# Altium footprint library Footprint.PcbLib: 97 footprints (part 5 of 7)
Each footprint in its own frame and in the unit in brackets; x right, y up, seen from the top. Pads: shape width x height; smd on the part's side, far side on the other; paste and mask are expansions set on the pad; w line width, h text height; cw(c..) or ccw(c..) is an arc to the next point about the centre after c.
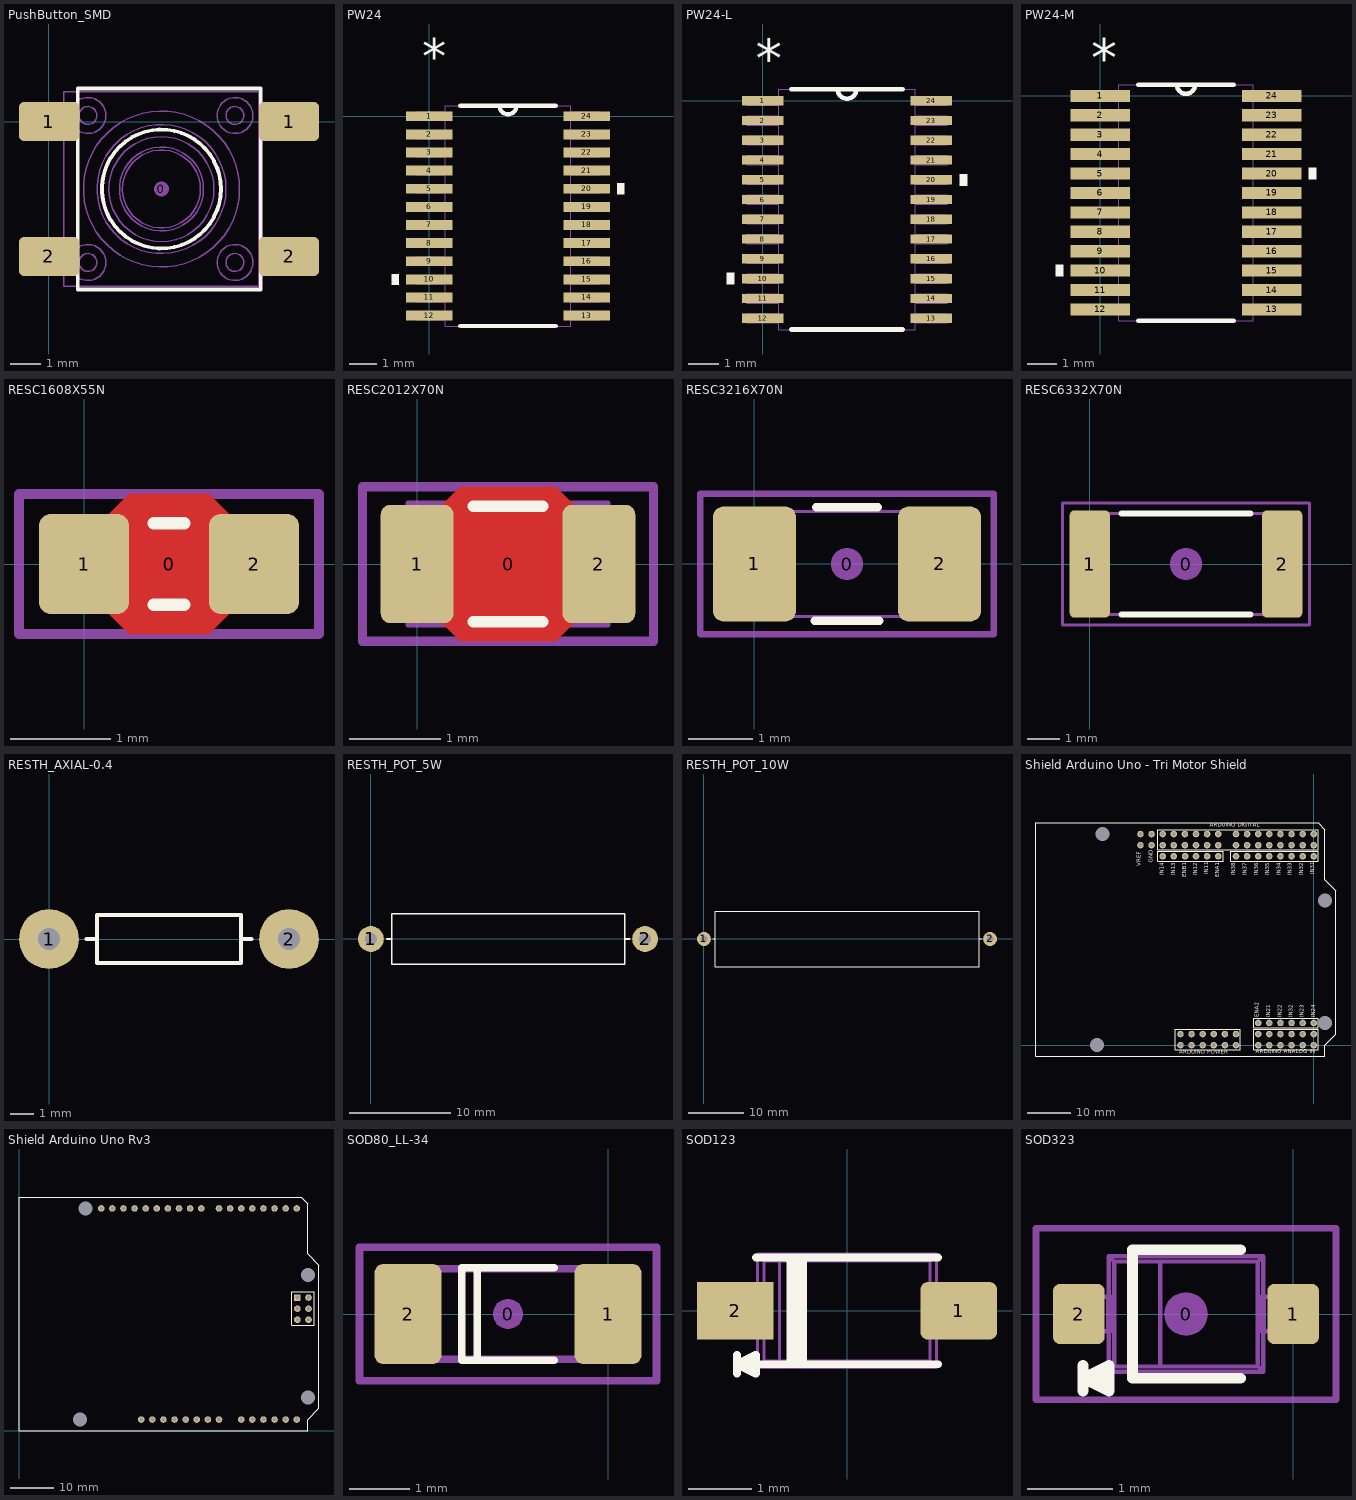
[diagram p4: the footprints below, top view; thin cyan lines are the x and y axes]

## PushButton_SMD [mm] "6.5x6.5mm SMD tact switch 7.0mm stem"
height 7
pads (5):
  round 0.508 on Mech15: 0(3.75,-2.25)
  rrect25% 2x1.3 smd: 1(0,0) 1(8.001,0) 2(0,-4.5) 2(8.001,-4.5)
Top Overlay:
  circle w0.127: c3.75,-2.25 r1.984
  lines w0.127: 0.956,-5.6 0.956,1.1 7.061,1.1 7.061,-5.6 0.956,-5.6
Mechanical 13:
  circle w0.05: c1.3,-4.7 r0.6
  circle w0.05: c6.2,-4.7 r0.6
  circle w0.05: c6.2,0.2 r0.6
  circle w0.05: c1.3,0.2 r0.6
  circle w0.05: c1.3,-4.698 r0.3
  circle w0.05: c6.2,-4.698 r0.3
  circle w0.05: c1.3,0.202 r0.3
  circle w0.05: c6.2,0.202 r0.3
  circle w0.05: c3.75,-2.25 r2.6
  circle w0.05: c3.75,-2.25 r2.15
  circle w0.05: c3.75,-2.252 r1.75
  circle w0.05: c3.75,-2.25 r1.4
  circle w0.05: c3.75,-2.25 r1.3
  lines w0.05: 0.159,-4.85 0.159,-4.15 ; 0.159,-0.35 0.159,0.35 ; 0.179,-4.85 0.179,-4.15 ; 0.179,-0.35 0.179,0.35 ; 0.282,-4.85 0.282,-4.15 ; 0.282,-0.35 0.282,0.35 ; 0.497,-4.85 0.497,-4.15 ; 0.497,-0.35 0.497,0.35 ; 0.5,-4.85 -0.25,-4.85 -0.25,-4.15 0.5,-4.15 ; 0.5,-0.35 -0.25,-0.35 -0.25,0.35 0.5,0.35 ; 7,-4.85 7.75,-4.85 7.75,-4.15 7,-4.15 ; 7,-0.35 7.75,-0.35 7.75,0.35 7,0.35 ; 7.003,-4.85 7.003,-4.15 ; 7.003,-0.35 7.003,0.35 ; 7.218,-4.85 7.218,-4.15 ; 7.218,-0.35 7.218,0.35 ; 7.321,-4.85 7.321,-4.15 ; 7.321,-0.35 7.321,0.35 ; 7.341,-4.85 7.341,-4.15 ; 7.341,-0.35 7.341,0.35 ; 0.5,-5.5 0.5,1 7,1 7,-5.5 0.5,-5.5
3D body: height 4.3, standoff 0, extent -0.436,-5.334 8.564,0.666

## PW24 [mil]
pads (24):
  rect 66x14 smd: 1(0,0) 2(0,-25.59) 3(0,-51.18) 4(0,-76.77) 5(0,-102.36) 6(0,-127.95) 7(0,-153.54) 8(0,-179.13) 9(0,-204.72) 10(0,-230.31) 11(0,-255.91) 12(0,-281.5) 13(222,-281.5) 14(222,-255.91) 15(222,-230.31) 16(222,-204.72) 17(222,-179.13) 18(222,-153.54) 19(222,-127.95) 20(222,-102.36) 21(222,-76.77) 22(222,-51.18) 23(222,-25.59) 24(222,0)
Top Overlay:
  region: -43,-222.81 -53,-222.81 -53,-237.81 -43,-237.81
  region: 265,-94.86 275,-94.86 275,-109.86 265,-109.86
  lines w6: 43.56,-296.25 178.44,-296.25 ; 43.56,14.75 178.44,14.75 ; 99,14.75 ccw(c111,14.75) 123,14.75
  text "*" at -10,59 h50
Mechanical 1:
  lines w0: 99,14.75 ccw(c111,14.75) 123,14.75 ; -19,-287.5 -19,-275.5 22.5,-275.5 22.5,-287.5 -19,-287.5 ; -19,-261.91 -19,-249.91 22.5,-249.91 22.5,-261.91 -19,-261.91 ; -19,-236.31 -19,-224.31 22.5,-224.31 22.5,-236.31 -19,-236.31 ; -19,-210.72 -19,-198.72 22.5,-198.72 22.5,-210.72 -19,-210.72 ; -19,-185.13 -19,-173.13 22.5,-173.13 22.5,-185.13 -19,-185.13 ; -19,-159.54 -19,-147.54 22.5,-147.54 22.5,-159.54 -19,-159.54 ; -19,-133.95 -19,-121.95 22.5,-121.95 22.5,-133.95 -19,-133.95 ; -19,-108.36 -19,-96.36 22.5,-96.36 22.5,-108.36 -19,-108.36 ; -19,-82.77 -19,-70.77 22.5,-70.77 22.5,-82.77 -19,-82.77 ; -19,-57.18 -19,-45.18 22.5,-45.18 22.5,-57.18 -19,-57.18 ; -19,-31.59 -19,-19.59 22.5,-19.59 22.5,-31.59 -19,-31.59 ; -19,-6 -19,6 22.5,6 22.5,-6 -19,-6 ; 22.5,-296.25 199.5,-296.25 199.5,14.75 22.5,14.75 22.5,-296.25 ; 199.5,-287.5 199.5,-275.5 241,-275.5 241,-287.5 199.5,-287.5 ; 199.5,-261.91 199.5,-249.91 241,-249.91 241,-261.91 199.5,-261.91 ; 199.5,-236.31 199.5,-224.31 241,-224.31 241,-236.31 199.5,-236.31 ; 199.5,-210.72 199.5,-198.72 241,-198.72 241,-210.72 199.5,-210.72 ; 199.5,-185.13 199.5,-173.13 241,-173.13 241,-185.13 199.5,-185.13 ; 199.5,-159.54 199.5,-147.54 241,-147.54 241,-159.54 199.5,-159.54 ; 199.5,-133.95 199.5,-121.95 241,-121.95 241,-133.95 199.5,-133.95 ; 199.5,-108.36 199.5,-96.36 241,-96.36 241,-108.36 199.5,-108.36 ; 199.5,-82.77 199.5,-70.77 241,-70.77 241,-82.77 199.5,-82.77 ; 199.5,-57.18 199.5,-45.18 241,-45.18 241,-57.18 199.5,-57.18 ; 199.5,-31.59 199.5,-19.59 241,-19.59 241,-31.59 199.5,-31.59 ; 199.5,-6 199.5,6 241,6 241,-6 199.5,-6
  text "*" at -10,59 h50
3D body: height 37.86, standoff -1.51, extent -15.38,-294.29 237.39,12.8

## PW24-L [mil]
pads (24):
  rect 54x12 smd: 1(0,0) 2(0,-25.59) 3(0,-51.18) 4(0,-76.77) 5(0,-102.36) 6(0,-127.95) 7(0,-153.54) 8(0,-179.13) 9(0,-204.72) 10(0,-230.31) 11(0,-255.91) 12(0,-281.5) 13(218,-281.5) 14(218,-255.91) 15(218,-230.31) 16(218,-204.72) 17(218,-179.13) 18(218,-153.54) 19(218,-127.95) 20(218,-102.36) 21(218,-76.77) 22(218,-51.18) 23(218,-25.59) 24(218,0)
Top Overlay:
  region: 255,-94.86 265,-94.86 265,-109.86 255,-109.86
  region: -37,-222.81 -47,-222.81 -47,-237.81 -37,-237.81
  lines w6: 36.75,-296.25 181.25,-296.25 ; 36.75,14.75 181.25,14.75 ; 97,14.75 ccw(c109,14.75) 121,14.75
  text "*" at -9,30 h50
Mechanical 1:
  lines w0: 97,14.75 ccw(c109,14.75) 121,14.75 ; -21,-287.5 20.5,-287.5 20.5,-275.5 -21,-275.5 -21,-287.5 ; -21,-261.91 20.5,-261.91 20.5,-249.91 -21,-249.91 -21,-261.91 ; -21,-236.31 20.5,-236.31 20.5,-224.31 -21,-224.31 -21,-236.31 ; -21,-210.72 20.5,-210.72 20.5,-198.72 -21,-198.72 -21,-210.72 ; -21,-185.13 20.5,-185.13 20.5,-173.13 -21,-173.13 -21,-185.13 ; -21,-159.54 20.5,-159.54 20.5,-147.54 -21,-147.54 -21,-159.54 ; -21,-133.95 20.5,-133.95 20.5,-121.95 -21,-121.95 -21,-133.95 ; -21,-108.36 20.5,-108.36 20.5,-96.36 -21,-96.36 -21,-108.36 ; -21,-82.77 20.5,-82.77 20.5,-70.77 -21,-70.77 -21,-82.77 ; -21,-57.18 20.5,-57.18 20.5,-45.18 -21,-45.18 -21,-57.18 ; -21,-31.59 20.5,-31.59 20.5,-19.59 -21,-19.59 -21,-31.59 ; -21,-6 20.5,-6 20.5,6 -21,6 -21,-6 ; 20.5,-296.25 20.5,14.75 197.5,14.75 197.5,-296.25 20.5,-296.25 ; 197.5,-287.5 239,-287.5 239,-275.5 197.5,-275.5 197.5,-287.5 ; 197.5,-261.91 239,-261.91 239,-249.91 197.5,-249.91 197.5,-261.91 ; 197.5,-236.31 239,-236.31 239,-224.31 197.5,-224.31 197.5,-236.31 ; 197.5,-210.72 239,-210.72 239,-198.72 197.5,-198.72 197.5,-210.72 ; 197.5,-185.13 239,-185.13 239,-173.13 197.5,-173.13 197.5,-185.13 ; 197.5,-159.54 239,-159.54 239,-147.54 197.5,-147.54 197.5,-159.54 ; 197.5,-133.95 239,-133.95 239,-121.95 197.5,-121.95 197.5,-133.95 ; 197.5,-108.36 239,-108.36 239,-96.36 197.5,-96.36 197.5,-108.36 ; 197.5,-82.77 239,-82.77 239,-70.77 197.5,-70.77 197.5,-82.77 ; 197.5,-57.18 239,-57.18 239,-45.18 197.5,-45.18 197.5,-57.18 ; 197.5,-31.59 239,-31.59 239,-19.59 197.5,-19.59 197.5,-31.59 ; 197.5,-6 239,-6 239,6 197.5,6 197.5,-6
3D body: height 37.86, standoff -1.51, extent -16.38,-294.29 236.38,12.79

## PW24-M [mil]
pads (24):
  rect 78x16 smd: 1(0,0) 2(0,-25.59) 3(0,-51.18) 4(0,-76.77) 5(0,-102.36) 6(0,-127.95) 7(0,-153.54) 8(0,-179.13) 9(0,-204.72) 10(0,-230.31) 11(0,-255.91) 12(0,-281.5) 13(226,-281.5) 14(226,-255.91) 15(226,-230.31) 16(226,-204.72) 17(226,-179.13) 18(226,-153.54) 19(226,-127.95) 20(226,-102.36) 21(226,-76.77) 22(226,-51.18) 23(226,-25.59) 24(226,0)
Top Overlay:
  region: -49,-222.81 -59,-222.81 -59,-237.81 -49,-237.81
  region: 275,-94.86 285,-94.86 285,-109.86 275,-109.86
  lines w6: 50.23,-296.25 175.77,-296.25 ; 50.23,14.75 175.77,14.75 ; 101,14.75 ccw(c113,14.75) 125,14.75
  text "*" at -12,25 h50
Mechanical 1:
  lines w0: 101,14.75 ccw(c113,14.75) 125,14.75 ; -17,-287.5 -17,-275.5 24.5,-275.5 24.5,-287.5 -17,-287.5 ; -17,-261.91 -17,-249.91 24.5,-249.91 24.5,-261.91 -17,-261.91 ; -17,-236.31 -17,-224.31 24.5,-224.31 24.5,-236.31 -17,-236.31 ; -17,-210.72 -17,-198.72 24.5,-198.72 24.5,-210.72 -17,-210.72 ; -17,-185.13 -17,-173.13 24.5,-173.13 24.5,-185.13 -17,-185.13 ; -17,-159.54 -17,-147.54 24.5,-147.54 24.5,-159.54 -17,-159.54 ; -17,-133.95 -17,-121.95 24.5,-121.95 24.5,-133.95 -17,-133.95 ; -17,-108.36 -17,-96.36 24.5,-96.36 24.5,-108.36 -17,-108.36 ; -17,-82.77 -17,-70.77 24.5,-70.77 24.5,-82.77 -17,-82.77 ; -17,-57.18 -17,-45.18 24.5,-45.18 24.5,-57.18 -17,-57.18 ; -17,-31.59 -17,-19.59 24.5,-19.59 24.5,-31.59 -17,-31.59 ; -17,-6 -17,6 24.5,6 24.5,-6 -17,-6 ; 24.5,-296.25 201.5,-296.25 201.5,14.75 24.5,14.75 24.5,-296.25 ; 201.5,-287.5 201.5,-275.5 243,-275.5 243,-287.5 201.5,-287.5 ; 201.5,-261.91 201.5,-249.91 243,-249.91 243,-261.91 201.5,-261.91 ; 201.5,-236.31 201.5,-224.31 243,-224.31 243,-236.31 201.5,-236.31 ; 201.5,-210.72 201.5,-198.72 243,-198.72 243,-210.72 201.5,-210.72 ; 201.5,-185.13 201.5,-173.13 243,-173.13 243,-185.13 201.5,-185.13 ; 201.5,-159.54 201.5,-147.54 243,-147.54 243,-159.54 201.5,-159.54 ; 201.5,-133.95 201.5,-121.95 243,-121.95 243,-133.95 201.5,-133.95 ; 201.5,-108.36 201.5,-96.36 243,-96.36 243,-108.36 201.5,-108.36 ; 201.5,-82.77 201.5,-70.77 243,-70.77 243,-82.77 201.5,-82.77 ; 201.5,-57.18 201.5,-45.18 243,-45.18 243,-57.18 201.5,-57.18 ; 201.5,-31.59 201.5,-19.59 243,-19.59 243,-31.59 201.5,-31.59 ; 201.5,-6 201.5,6 243,6 243,-6 201.5,-6
3D body: height 37.86, standoff -1.51, extent -13.38,-293.29 239.39,13.79

## RESC1608X55N [mm] "Chip Resistor, Body 1.6x0.8mm, EIA 0603, IPC Medium Density"
height 0.55
pads (3):
  round 0.254 on Mech15: 0(0.85,0)
  rrect25% 0.9x1 smd: 1(0,0) 2(1.7,0)
Top Layer:
  pour cut-out: 0.25,0.5 0.45,0.7 1.25,0.7 1.45,0.5 1.45,-0.5 1.25,-0.7 0.45,-0.7 0.25,-0.5
Top Overlay:
  lines w0.127: 0.698,-0.406 1.002,-0.406 ; 0.698,0.406 1.002,0.406
Mechanical 13:
  lines w0.05: -0.025,-0.475 0.375,-0.475 0.375,0.475 -0.025,0.475 -0.025,-0.475 ; 0.375,-0.474 1.325,-0.474 0.375,-0.474 ; 0.375,0.474 1.325,0.474 0.375,0.474 ; 1.325,-0.475 1.325,0.475 1.725,0.475 1.725,-0.475 1.325,-0.475
Mechanical 15:
  lines w0.1: -0.65,-0.7 -0.65,0.7 2.35,0.7 2.35,-0.7 -0.65,-0.7
3D body: height 0.54, standoff -0.01, extent -0.025,-0.475 1.725,0.475

## RESC2012X70N [mm] "Chip Resistor, Body 2.0x1.2mm, EIA 0805, IPC Medium Density"
height 0.7
pads (3):
  round 0.254 on Mech15: 0(1,0)
  rrect25% 0.8x1.3 smd: 1(0,0) 2(2,0)
Top Layer:
  pour cut-out: 0.275,0.65 0.475,0.85 1.525,0.85 1.725,0.65 1.725,-0.65 1.525,-0.85 0.475,-0.85 0.275,-0.65
Top Overlay:
  lines w0.127: 0.619,-0.635 1.381,-0.635 ; 0.619,0.635 1.381,0.635
Mechanical 13:
  lines w0.05: 1.6,-0.674 0.4,-0.674 ; 0.4,-0.675 0.4,0.675 -0.1,0.675 -0.1,-0.675 0.4,-0.675 ; 0.4,-0.674 1.6,-0.674 ; 1.6,-0.675 1.6,0.675 ; 1.6,-0.675 2.1,-0.675 2.1,0.675 1.6,0.675 ; 1.6,0.674 0.4,0.674 1.6,0.674
Mechanical 15:
  lines w0.1: -0.6,-0.85 2.6,-0.85 2.6,0.85 -0.6,0.85 -0.6,-0.85
3D body: height 0.69, standoff -0.01, extent -0.1,-0.675 2.1,0.675

## RESC3216X70N [mm] "Chip Resistor, Body 3.2x1.6mm, EIA 1206, IPC Medium Density"
height 0.7
pads (3):
  round 0.508 on Mech15: 0(1.45,0)
  rrect25% 1.3x1.8 smd: 1(0,0) 2(2.9,0)
Top Overlay:
  lines w0.127: 0.942,-0.889 1.958,-0.889 ; 0.967,0.889 1.933,0.889
Mechanical 13:
  lines w0.05: 2.475,-0.824 0.425,-0.824 2.475,-0.824 ; -0.175,-0.825 0.425,-0.825 0.425,0.825 -0.175,0.825 -0.175,-0.825 ; 0.425,0.824 2.475,0.824 0.425,0.824 ; 2.475,-0.825 2.475,0.825 3.075,0.825 3.075,-0.825 2.475,-0.825
Mechanical 15:
  lines w0.1: -0.85,-1.1 -0.85,1.1 3.75,1.1 3.75,-1.1 -0.85,-1.1
3D body: height 0.69, standoff -0.01, extent -0.175,-0.825 3.075,0.825

## RESC6332X70N [mm] "Chip Resistor, Body 6.3x3.2mm, 2512, IPC Medium Density"
height 0.7
pads (3):
  round 1 on Mech15: 0(3,0)
  rrect25% 1.25x3.35 smd: 1(0,0) 2(6,0)
Top Overlay:
  lines w0.2: 1,-1.575 5,-1.575 ; 1,1.575 5,1.575
Mechanical 13:
  lines w0.1: -0.15,-1.575 -0.15,1.575 6.15,1.575 6.15,-1.575 -0.15,-1.575
Mechanical 15:
  lines w0.1: -0.85,-1.9 -0.85,1.9 6.85,1.9 6.85,-1.9 -0.85,-1.9
3D body: height 0.69, standoff -0.01, extent -0.3,-1.7 6.3,1.7

## RESTH_AXIAL-0.4 [mil]
height 80
pads (2):
  round 100 hole 36 unplated: 1(0,0) 2(400,0)
Top Overlay:
  lines w6: 62.2,0 80,0 ; 320,0 337.8,0 ; 80,-40 80,40 320,40 320,-40 80,-40
3D body: height 102.23, standoff -100, extent -11.81,-50.27 411.81,50.27

## RESTH_POT_5W [mm] "Power resistor 5W"
height 10
pads (2):
  round 2.54 hole 1.2 unplated: 1(0,0) 2(27,0)
Top Overlay:
  lines w0.152: 1.58,0 2.032,0 ; 25,0 25.5,0 ; 2.032,-2.5 25,-2.5 25,2.5 2.032,2.5 2.032,-2.5
3D body: height 30, standoff 20, extent 2.007,-2.489 25.019,2.489
3D body: height 25, standoff 0, extent -1.091,-1.098 1.1,1.098
3D body: height 25, standoff 0, extent 25.909,-1.098 28.1,1.098
3D body: height 26.09, standoff 23.9, extent 24.1,-1.098 28.1,1.098
3D body: height 26.09, standoff 23.9, extent -1.094,-1.092 2.906,1.104

## RESTH_POT_10W [mm] "Power resistor 10W"
height 10
pads (2):
  round 2.54 hole 1.2 unplated: 1(0,0) 2(52,0)
Top Overlay:
  lines w0.152: 1.58,0 2.032,0 ; 50,0 50.5,0 ; 2.032,-5 2.032,5 50,5 50,-5 2.032,-5
3D body: height 26.09, standoff 23.9, extent -1.094,-1.092 2.906,1.104
3D body: height 26.09, standoff 23.9, extent 49.105,-1.092 53.105,1.103
3D body: height 25, standoff 0, extent 50.909,-1.098 53.1,1.098
3D body: height 25, standoff 0, extent -1.091,-1.098 1.1,1.098
3D body: height 30, standoff 20, extent 2.007,-5.029 50.038,5.029

## Shield Arduino Uno - Tri Motor Shield [mm]
pads (80):
  round 1.5 hole 0.9: 0(0,45.72) 0(0,48.26) 1(-2.54,45.72) 1(-2.54,48.26) 2(-5.08,45.72) 2(-5.08,48.26) 3(-7.62,45.72) 3(-7.62,48.26) 4(-10.16,45.72) 4(-10.16,48.26) 5(-12.7,45.72) 5(-12.7,48.26) 6(-15.24,45.72) 6(-15.24,48.26) 7(-17.78,45.72) 7(-17.78,48.26) 8(-21.844,45.72) 8(-21.844,48.26) 9(-24.384,45.72) 9(-24.384,48.26) 10(-26.924,45.72) 10(-26.924,48.26) 11(-29.464,45.72) 11(-29.464,48.26) 12(-32.004,45.72) 12(-32.004,48.26) 13(-34.544,45.72) 13(-34.544,48.26) 14(-37.084,45.72) 14(-37.084,48.26) 15(-39.624,45.72) 15(-39.624,48.26) 16(0,0) 16(0,2.54) 17(-2.54,0) 17(-2.54,2.54) 18(-5.08,0) 18(-5.08,2.54) 19(-7.62,0) 19(-7.62,2.54) 20(-10.16,0) 20(-10.16,2.54) 21(-12.7,0) 21(-12.7,2.54) 22(-17.78,0) 22(-17.78,2.54) 23(-20.32,0) 23(-20.32,2.54) 24(-22.86,0) 24(-22.86,2.54) 25(-25.4,0) 25(-25.4,2.54) 26(-27.94,0) 26(-27.94,2.54) 27(-30.48,0) 27(-30.48,2.54) 28(0,5.08) 29(-2.54,5.08) 30(-5.08,5.08) 31(-7.62,5.08) 32(-10.16,5.08) 33(-12.7,5.08) 34(0,43.18) 35(-2.54,43.18) 36(-5.08,43.18) 37(-7.62,43.18) 38(-10.16,43.18) 39(-12.7,43.18) 40(-15.24,43.18) 41(-17.78,43.18) 42(-21.844,43.18) 43(-24.384,43.18) 44(-26.924,43.18) 45(-29.413,43.18) 46(-32.004,43.18) 47(-34.544,43.18)
  rect 0x0 hole 3.2: ""(-49.53,0) ""(-48.26,48.26) ""(2.54,5.08) ""(2.54,33.02)
Top Overlay:
  lines w0.102: -63.5,-2.54 2.54,-2.54 2.54,0 5.08,2.54 5.08,35.306 2.54,37.846 2.54,49.276 1.016,50.8 -63.5,50.8 -63.5,-2.54 ; -35.687,42.037 -20.701,42.037 -20.701,44.323 -35.687,44.323 -35.687,42.037 ; -35.687,44.704 -35.687,49.276 1.041,49.276 1.041,44.704 -35.687,44.704 ; -31.623,-1.016 -16.764,-1.016 -16.764,3.683 -31.623,3.683 -31.623,-1.016 ; -18.923,42.037 -18.923,44.323 1.016,44.323 1.016,42.037 -18.923,42.037 ; -13.716,-1.016 1.016,-1.016 1.016,3.683 -13.716,3.683 -13.716,-1.016 ; -13.716,3.937 1.016,3.937 1.016,6.096 -13.716,6.096 -13.716,3.937
  text "ARDUINO ANALOG IN" at -13.31,-2.21 h1.52
  text "ARDUINO POWER" at -30.759,-2.311 h1.52
  text "ARDUINO DIGITAL" at -23.724,49.555 h1.52
  text "IN24" at 0.635,6.35 h1.52
  text "IN23" at -1.905,6.35 h1.52
  text "IN32" at -4.445,6.35 h1.52
  text "IN22" at -6.985,6.35 h1.52
  text "IN21" at -9.601,6.35 h1.52
  text "ENA2" at -12.192,6.35 h1.52
  text "IN31" at 0.483,39.055 h1.52
  text "IN32" at -2.094,38.876 h1.52
  text "IN33" at -4.67,38.866 h1.52
  text "IN34" at -7.246,38.87 h1.52
  text "IN35" at -9.823,38.859 h1.52
  text "IN36" at -12.399,38.866 h1.52
  text "IN37" at -14.975,38.866 h1.52
  text "IN38" at -17.551,38.864 h1.52
  text "ENA1" at -21.209,38.354 h1.52
  text "IN11" at -23.749,39.055 h1.52
  text "IN12" at -26.289,38.876 h1.52
  text "ENB1" at -28.829,38.354 h1.52
  text "IN13" at -31.369,38.866 h1.52
  text "IN14" at -33.909,38.87 h1.52
  text "GND" at -36.5,41.656 h1.52
  text "VREF" at -39.167,40.869 h1.52

## Shield Arduino Uno Rv3 [mm]
pads (42):
  round 1.5 hole 0.9: 1(63.5,50.8) 2(60.96,50.8) 3(58.42,50.8) 4(55.88,50.8) 5(53.34,50.8) 6(50.8,50.8) 7(48.26,50.8) 8(45.72,50.8) 9(41.656,50.8) 10(39.116,50.8) 11(36.576,50.8) 12(34.036,50.8) 12(66.18,27.89) 13(31.496,50.8) 14(28.956,50.8) 14(63.64,27.89) 15(26.416,50.8) 16(23.876,50.8) 17(21.336,50.8) 18(18.796,50.8) 19(63.5,2.54) 20(60.96,2.54) 21(58.42,2.54) 22(55.88,2.54) 23(53.34,2.54) 24(50.8,2.54) 25(45.72,2.54) 26(43.18,2.54) 26(66.18,25.35) 27(40.64,2.54) 28(38.1,2.54) 28(66.18,30.43) 29(35.56,2.54) 30(33.02,2.54) 30(63.64,25.35) 31(30.48,2.54) 32(27.94,2.54)
  rect 1.5x1.5 hole 0.9: 13(63.64,30.43)
  rect 0x0 hole 3.2: ""(13.97,2.54) ""(15.24,50.8) ""(66.04,7.62) ""(66.04,35.56)
Top Overlay:
  lines w0.102: 0,0 66.04,0 66.04,2.54 68.58,5.08 68.58,37.846 66.04,40.386 66.04,51.816 64.516,53.34 0,53.34 0,0
  lines w0.254: 62.37,24.08 62.37,31.7 67.45,31.7 67.45,24.08 62.37,24.08

## SOD80_LL-34 [mm] "Diode, MiniMELF"
height 1.6
pads (3):
  round 0.5 on Mech15: 0(-1.65,0)
  rrect25% 1.1x1.65 smd: 1(0,0) 2(-3.3,0)
Top Overlay:
  lines w0.127: -2.158,-0.762 -2.158,0.762 ; -0.888,-0.762 -2.412,-0.762 -2.412,0.762 -0.888,0.762
Mechanical 13:
  lines w0.127: -3.45,-0.747 -3.45,0.747 0.15,0.747 0.15,-0.747 -3.45,-0.747
Mechanical 15:
  lines w0.127: -4.1,-1.1 -4.1,1.1 0.8,1.1 0.8,-1.1 -4.1,-1.1
3D body: height 1.47, standoff -0.01, extent -3.45,-0.747 0.15,0.747

## SOD123 [mil] "SOD-123; 2 Leads; Body 2.7 x 1.6 mm, (LxW)"
height 53.15
pads (2):
  rrect25% 48x36 smd: 1(70,0)
  rect 48x36 smd: 2(-70,0)
Top Overlay:
  lines w5: -68.9,-39.37 -68.9,-27.56 ; -57.09,33.46 57.09,33.46 ; -35.43,-33.46 -35.43,33.46 ; -31.5,-33.46 -31.5,33.46 ; -27.56,-33.46 -27.56,33.46 ; 57,-33.46 -57.09,-33.46 -68.9,-33.46 ; -68.9,-33.46 -57.09,-27.56 -57.09,-39.37 -68.9,-33.46
Mechanical 13:
  lines w1.97: -69.53,-12.11 -69.53,12.11 ; -67.2,-12.11 -67.2,12.11 ; -59.7,-12.11 -59.7,12.11 ; -56.1,-12.11 -76.77,-12.11 -76.77,12.11 -56.1,12.11 ; 56.1,-12.11 76.77,-12.11 76.77,12.11 56.1,12.11 ; 59.7,-12.11 59.7,12.11 ; 67.2,-12.11 67.2,12.11 ; 69.53,-12.11 69.53,12.11 ; -56.1,-35.43 -56.1,35.43 ; -56.1,-35.43 -52.07,-31.4 ; -56.1,-35.43 56.1,-35.43 ; -56.1,35.43 56.1,35.43 ; -56.1,35.43 -52.07,31.4 ; -52.07,-31.4 -52.07,31.4 ; -52.07,-31.4 -42.22,-31.4 ; -52.07,31.4 -42.22,31.4 ; -42.22,-31.4 -42.22,31.4 ; -42.22,-31.4 52.06,-31.39 ; -42.22,31.4 52.06,31.39 ; 52.06,-31.39 56.1,-35.43 ; 52.06,-31.39 52.06,31.39 ; 52.06,31.39 56.1,35.43 ; 56.1,-35.43 56.1,35.43
3D body: height 46.46, standoff 0, extent -76.76,-35.43 76.78,35.44

## SOD323 [mm] "SOD-323; 2 Leads; Body 1.8 x 1.35 mm, (LxW)"
height 1.15
pads (3):
  round 0.508 on Mech15: 0(-1.25,0)
  rrect25% 0.6x0.7 smd: 1(0,0) 2(-2.5,0)
Top Overlay:
  lines w0.127: -2.45,-0.9 -2.45,-0.6 ; -2.15,-0.75 -2.45,-0.75 ; -0.615,-0.75 -1.875,-0.75 -1.875,0.75 -0.615,0.75 ; -2.45,-0.75 -2.15,-0.9 -2.15,-0.6 -2.45,-0.75
Mechanical 13:
  lines w0.05: -2.407,-0.2 -2.407,0.2 ; -2.36,-0.2 -2.36,0.2 ; -2.16,-0.2 -2.16,0.2 ; -2.15,-0.2 -2.15,-0.675 ; -2.15,0.2 -2.15,0.675 ; -0.35,-0.2 -0.35,-0.675 ; -0.35,0.2 -0.35,0.675 ; -0.34,-0.2 -0.34,0.2 ; -0.14,-0.2 -0.14,0.2 ; -0.093,-0.2 -0.093,0.2 ; -2.15,-0.675 -2.088,-0.613 ; -2.15,-0.675 -0.35,-0.675 ; -2.15,0.675 -0.35,0.675 ; -2.15,0.675 -2.088,0.613 ; -2.088,-0.613 -2.088,0.613 ; -2.088,-0.613 -1.55,-0.613 ; -2.088,0.613 -1.55,0.613 ; -1.55,-0.613 -1.55,0.613 ; -1.55,-0.613 -0.412,-0.613 ; -1.55,0.613 -0.412,0.613 ; -0.412,-0.613 -0.412,0.613 ; -0.412,-0.613 -0.35,-0.675 ; -0.412,0.613 -0.35,0.675 ; -2.55,-0.2 -2.55,0.2 -2.129,0.2 -2.129,-0.2 -2.55,-0.2 ; -0.371,-0.2 0.05,-0.2 0.05,0.2 -0.371,0.2 -0.371,-0.2
Mechanical 15:
  lines w0.076: -3,-1 -3,1 0.5,1 0.5,-1 -3,-1
3D body: height 1.1, standoff 0, extent -2.55,-0.675 0.05,0.675